# Altium schematic symbol library TLE9012DQU.SchLib: 1 symbol
Pins are listed as number, name and electrical type; pins without a type are passive.

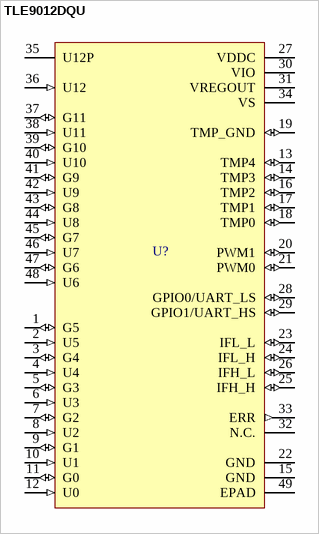
[diagram p0: symbol TLE9012DQU]

## TLE9012DQU
designator U?
Li-ion battery monitoring and balancing IC
pins: 1 G5 (io), 2 U5 (in), 3 G4 (io), 4 U4 (in), 5 G3 (io), 6 U3 (in), 7 G2 (io), 8 U2 (in), 9 G1 (io), 10 U1 (in), 11 G0 (io), 12 U0 (in), 13 TMP4 (io), 14 TMP3 (io), 15 GND (power), 16 TMP2 (io), 17 TMP1 (io), 18 TMP0 (io), 19 TMP_GND (io), 20 PWM1 (io), 21 PWM0 (io), 22 GND (power), 23 IFL_L (io), 24 IFL_H (io), 25 IFH_H (io), 26 IFH_L (io), 27 VDDC (power), 28 GPIO0/UART_LS (io), 29 GPIO1/UART_HS (io), 30 VIO (power), 31 VREGOUT (power), 32 N.C., 33 ERR (out), 34 VS (power), 35 U12P (power), 36 U12 (in), 37 G11 (io), 38 U11 (in), 39 G10 (io), 40 U10 (in), 41 G9 (io), 42 U9 (in), 43 G8 (io), 44 U8 (in), 45 G7 (io), 46 U7 (in), 47 G6 (io), 48 U6 (in), 49 EPAD (power)